# Altium footprint library CAPPRD200W50D500H1200V - 0 - 0.PcbLib: 1 footprints
Each footprint in its own frame and in the unit in brackets; x right, y up, seen from the top. Pads: shape width x height; smd on the part's side, far side on the other; paste and mask are expansions set on the pad; w line width, h text height; cw(c..) or ccw(c..) is an arc to the next point about the centre after c.
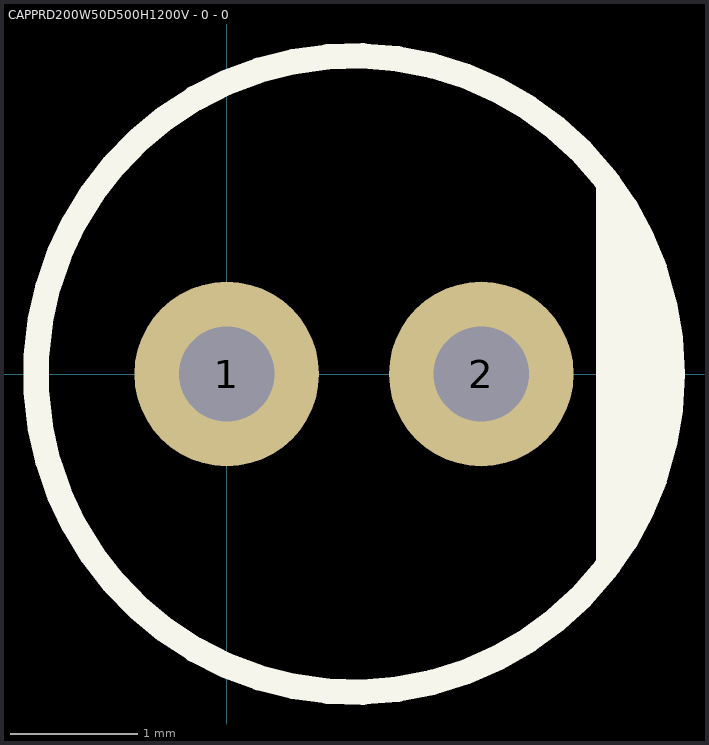
[diagram p0: the footprint, top view; thin cyan lines are the x and y axes]

## CAPPRD200W50D500H1200V - 0 - 0 [mm] "CAP ALUM RADIAL DIA 5MM HEIGHT 12MM PITCH 2MM"
height 12
pads (2):
  round 1.45 hole 0.75: 1(0,0) 2(2,0)
Top Overlay:
  circle w0.2: c1,0 r2.5
  region: 3,-1.5 3.119,-1.381 3.306,-1.102 3.434,-0.791 3.5,-0.461 3.5,-0.293 3.5,0.2 3.5,0.343 3.444,0.623 3.335,0.886 3.177,1.123 3.076,1.224 3,1.3
  lines w0.2: 3,-1.5 3,1.5
3D body: height 12, standoff 0, extent -1.5,-2.497 3.5,2.497